# EAGLE library part HTS221TR (library HTS221TR)
Humidity and Temperature Sensor HLGA6 STMicroelectronics HTS221TR Temperature & Humidity Sensor, -40 +120 C, 6-Pin HLGA Source: Datasheet <http://www.st.com/content/ccc/resource/technical/document/datasheet/4d/9a/9c/ad/25/07/42/34/DM00116291.pdf/files/DM00116291.pdf/jcr:content/translations/en.DM00116291.pdf>
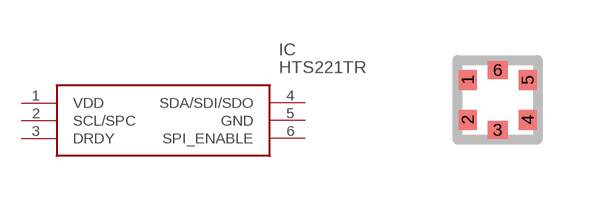
[diagram p0: symbol with the pads of HLGA-6L; footprint HLGA-6L]

Designator prefix IC

## HTS221TR (Description: Humidity and Temperature Sensor HLGA6 STMicroelectronics HTS221TR Temperature & Humidity Sensor, -40 +120 C, 6-Pin HLGA; Height: mm; Manufacturer_Name: STMicroelectronics; Manufacturer_Part_Number: HTS221TR; Mouser_Part_Number: 511-HTS221TR; Mouser_Price-Stock: https://www.mouser.com/Search/Refine.aspx?Keyword=511-HTS221TR; RS_Part_Number: 1660935; RS_Price-Stock: https://uk.rs-online.com/web/p/products/1660935)  [HLGA-6L]
1  VDD
2  SCL/SPC
3  DRDY
4  SDA/SDI/SDO
5  GND
6  SPI_ENABLE

## Footprint HLGA-6L (pad centres in mm)
HLGA-6L
smd 0.45 x 0.5: 1 -0.75,0.5; 2 -0.75,-0.5; 4 0.75,-0.5; 5 0.75,0.5
smd 0.5 x 0.45: 3 0,-0.75; 6 0,0.75